# Altium schematic symbol library IC_MC3479.Schlib: 1 symbol
Pins are listed as number, name and electrical type; pins without a type are passive.

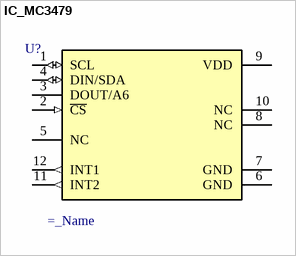
[diagram p0: symbol IC_MC3479]

## IC_MC3479
designator U?  (value not drawn)
=description; Value: =_Name
pins: 1 SCL (io), 2 ~{CS} (in), 3 DOUT/A6, 4 DIN/SDA (io), 5 NC, 6 GND (power), 7 GND (power), 8 NC (power), 9 VDD (power), 10 NC (power), 11 INT2 (out), 12 INT1 (out)